# Altium schematic symbol library ST-1KL3A.SchLib: 1 symbol
Pins are listed as number, name and electrical type; pins without a type are passive.

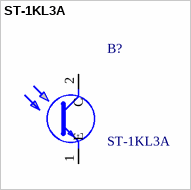
[diagram p0: symbol ST-1KL3A]

## ST-1KL3A
designator B?
high-sensitivity NPN silicon phototransistor VCEO 40v VECO 6v IC 50mA TO-18 can; Manufacturer_Name: KODENSHI; Geometry.Height: 6.7mm; RS Part Number: 6051442; RS Price/Stock: https://uk.rs-online.com/web/p/products/6051442; Manufacturer_Part_Number: ST-1KL3A; Datasheet Link: https://www.kodenshi.co.jp/files/product/ST-1KL3A.pdf
footprint ST1KL3A
pins: 1 E, 2 C